# Altium schematic symbol library 865230542002.SchLib: 1 symbol
Pins are listed as number, name and electrical type; pins without a type are passive.

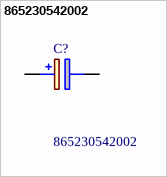
[diagram p0: symbol 865230542002]

## 865230542002
designator C?
Wurth Elektronik 10uF 35 V dc Aluminium Electrolytic Capacitor, WCAP-AS5H Series 5000h 5.5 (Dia.) x 4.85mm; Geometry.Height: 5.5mm; Mouser Part Number: 710-865230542002; Mouser Price/Stock: https://www.mouser.co.uk/ProductDetail/Wurth-Elektronik/865230542002?qs=0KOYDY2FL2%2F9Zrx1rvGWxQ%3D%3D; Manufacturer_Name: Wurth Elektronik; Manufacturer_Part_Number: 865230542002; Datasheet Link: http://katalog.we-online.com/pbs/datasheet/865230542002.pdf
footprint CAPAE530X550N
pins: 1 +, 2 -